# Altium schematic symbol library AP7363-33D-13.SchLib: 2 symbols
Pins are listed as number, name and electrical type; pins without a type are passive.

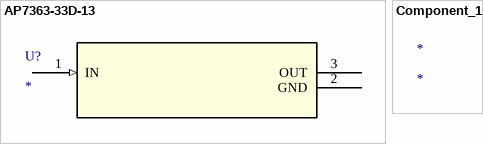
[diagram p0: symbols AP7363-33D-13 to Component_1]

## AP7363-33D-13
designator U?
No Description Available; Mfr_Name: Diodes Inc; RefDes: RefDes; Type: Type
footprint TO252-3L_DIO
pins: 1 IN (in), 2 GND (power), 3 OUT (power)

## Component_1
designator *